# EAGLE library part ADV7125JSTZ240 (library SamacSys_Parts)
ADV7125JSTZ240, Video DAC Triple, 8 bit- 240Msps +/-5%FSR Parallel, 48-Pin LQFP Source: Datasheet <https://componentsearchengine.com/Datasheets/1/ADV7125JSTZ240.pdf>
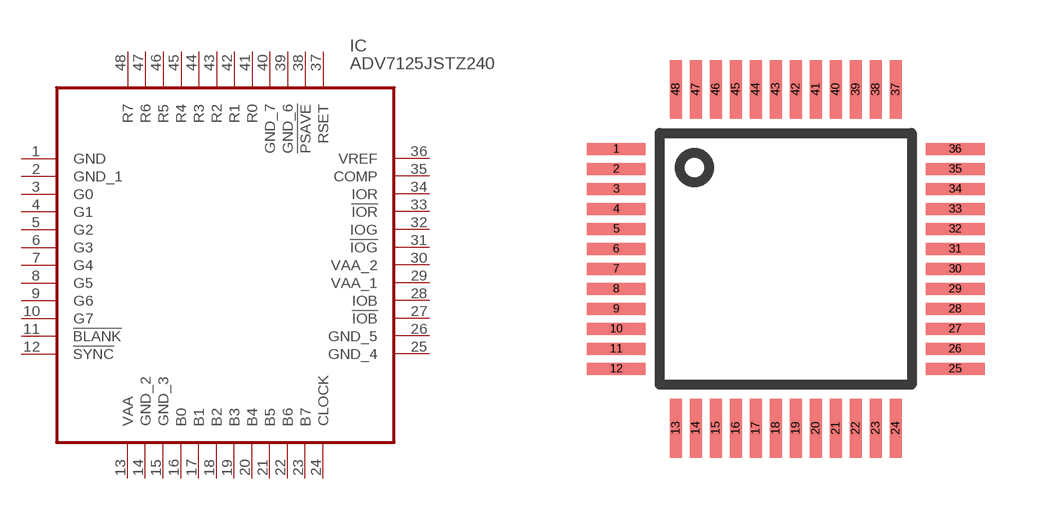
[diagram p5: symbol with the pads of QFP50P900X900X160-48N; footprint QFP50P900X900X160-48N]

Designator prefix IC

## ADV7125JSTZ240 (DESCRIPTION: ADV7125JSTZ240, Video DAC Triple, 8 bit- 240Msps +/-5%FSR Parallel, 48-Pin LQFP; HEIGHT: 1.6mm; MANUFACTURER_NAME: Analog Devices; MANUFACTURER_PART_NUMBER: ADV7125JSTZ240; MOUSER_PART_NUMBER: 584-ADV7125JSTZ240; MOUSER_PRICE-STOCK: https://www.mouser.com/Search/Refine.aspx?Keyword=584-ADV7125JSTZ240)  [QFP50P900X900X160-48N]
1  GND  pwr
2  GND_1  pwr
3  G0
4  G1
5  G2
6  G3
7  G4
8  G5
9  G6
10  G7
11  !BLANK
12  !SYNC
13  VAA  pwr
14  GND_2  pwr
15  GND_3  pwr
16  B0
17  B1
18  B2
19  B3
20  B4
21  B5
22  B6
23  B7
24  CLOCK  in
25  GND_4  pwr
26  GND_5  pwr
27  !IOB
28  IOB
29  VAA_1  pwr
30  VAA_2  pwr
31  !IOG
32  IOG
33  !IOR
34  IOR
35  COMP
36  VREF  in
37  RSET
38  !PSAVE
39  GND_6  pwr
40  GND_7  pwr
41  R0
42  R1
43  R2
44  R3
45  R4
46  R5
47  R6
48  R7

## Footprint QFP50P900X900X160-48N (pad centres in mm)
ST-48 (LQFP)
smd 1.475 x 0.3: 1 -4.238,2.75; 2 -4.238,2.25; 3 -4.238,1.75; 4 -4.238,1.25; 5 -4.238,0.75; 6 -4.238,0.25; 7 -4.238,-0.25; 8 -4.238,-0.75; 9 -4.238,-1.25; 10 -4.238,-1.75; 11 -4.238,-2.25; 12 -4.238,-2.75; 25 4.238,-2.75; 26 4.238,-2.25; 27 4.238,-1.75; 28 4.238,-1.25; 29 4.238,-0.75; 30 4.238,-0.25; 31 4.238,0.25; 32 4.238,0.75; 33 4.238,1.25; 34 4.238,1.75; 35 4.238,2.25; 36 4.238,2.75
smd 0.3 x 1.475: 13 -2.75,-4.238; 14 -2.25,-4.238; 15 -1.75,-4.238; 16 -1.25,-4.238; 17 -0.75,-4.238; 18 -0.25,-4.238; 19 0.25,-4.238; 20 0.75,-4.238; 21 1.25,-4.238; 22 1.75,-4.238; 23 2.25,-4.238; 24 2.75,-4.238; 37 2.75,4.238; 38 2.25,4.238; 39 1.75,4.238; 40 1.25,4.238; 41 0.75,4.238; 42 0.25,4.238; 43 -0.25,4.238; 44 -0.75,4.238; 45 -1.25,4.238; 46 -1.75,4.238; 47 -2.25,4.238; 48 -2.75,4.238